# Altium schematic symbol library Circular_24_Channel_Emulator_Review_done.SchLib: 3 symbols
Pins are listed as number, name and electrical type; pins without a type are passive.

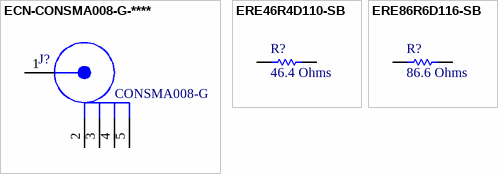
[diagram p0: symbols ECN-CONSMA008-G-**** to ERE86R6D116-SB]

## ECN-CONSMA008-G-****
designator J?, comment value CONSMA008-G  (hidden comment: CONN SMA RCPT STR 50 OHM PCB)
Manufacturer: Linx Technologies; Internal Part Number: ECN-CONSMA008-G-****; Vendor Part Number: 712-CONSMA008-G; Component Height (mm): 17.68mm; 3rd Auxiliary Field: RoHS Compliant; Vendor Name: Mouser; Temp Co: -65°C ~ 165°C; 2nd Auxiliary Field: 50Ohm; Part Type: CONN SMA RCPT STR 50 OHM PCB; Manufacturer Part Number: CONSMA008-G; 4th Auxiliary Field: *; 1st Auxiliary Field: SMA
footprint LINX_CONSMA008-G (Footprint not found)
pins: 1, 2 (power), 3 (power), 4 (power), 5 (power)

## ERE46R4D110-SB
designator R?, comment value 46.4 Ohms  (hidden comment: Thin Film Resistors - SMD HP PrecisionResistor 1E 0.1W 46R4)
Manufacturer: TE Connectivity / Holsworthy; Internal Part Number: ERE46R4D110-SB; Manufacturer Part Number: RP73PF1E46R4BTDF; Vendor Part Number: 279-RP73PF1E46R4BTDF; Component Height (mm): 0.3mm; 3rd Auxiliary Field: ROHS Compliant; Vendor Name: Mouser; Temp Co: -55°C ~ 155°C; 1st Auxiliary Field: 1/10 W; 2nd Auxiliary Field: 0.1 %; Part Type: Thin Film Resistors - SMD HP PrecisionResistor 1E 0.1W 46R4; 4th Auxiliary Field: *
footprint SMDR0402 (Footprint not found)
pins: 1, 2

## ERE86R6D116-SB
designator R?, comment value 86.6 Ohms  (hidden comment: Thin Film Resistors - SMD 0402 86.6ohm .1% AEC-Q200)
Manufacturer: Panasonic; Internal Part Number: ERE86R6D116-SB; Manufacturer Part Number: ERA-2AEB86R6X; Vendor Part Number: 667-ERA-2AEB86R6X; Component Height (mm): 0.35mm; 3rd Auxiliary Field: ROHS Compliant; Vendor Name: Mouser; Temp Co: -55°C ~ 155°C; 1st Auxiliary Field: 1/16 W; 2nd Auxiliary Field: 0.1 %; Part Type: Thin Film Resistors - SMD 0402 86.6ohm .1% AEC-Q200; 4th Auxiliary Field: AEC-Q200
footprint SMDR0402 (Footprint not found)
pins: 1, 2